# EAGLE library part 1.27-10-PIN-HEADER (library 1.27mm 10pin header)
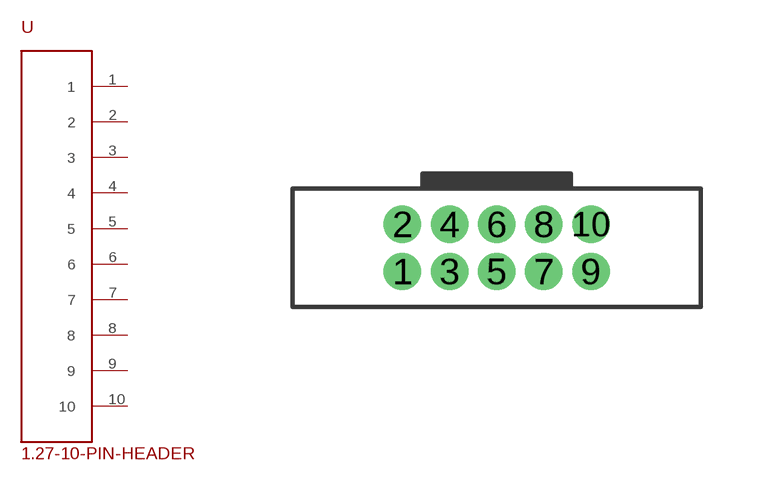
[diagram p0: symbol with the pads of TH; footprint TH]

Designator prefix -

## 1.27-10-PIN-HEADER  [TH]
1  1
2  2
3  3
4  4
5  5
6  6
7  7
8  8
9  9
10  10

## Footprint TH (pad centres in mm)
drill 0.5 pad 0.9: 1 -2.54,-0.64; 2 -2.54,0.63; 3 -1.27,-0.64; 4 -1.27,0.63; 5 0,-0.64; 6 0,0.63; 7 1.27,-0.64; 8 1.27,0.63; 9 2.54,-0.64; 10 2.54,0.63